# Altium schematic symbol library ST1S40IPUR.SchLib: 1 symbol
Pins are listed as number, name and electrical type; pins without a type are passive.

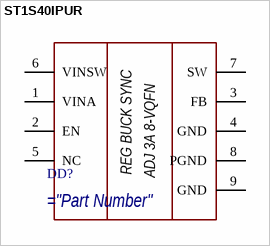
[diagram p0: symbol ST1S40IPUR]

## ST1S40IPUR
designator DD?
Buck Switching Regulator IC Positive Adjustable 0.8V 1 Output 3A 8-VDFN Exposed Pad; MF: STMicroelectronics; MP: ST1S40IPUR; SnapEDA_Link: https://www.snapeda.com/parts/ST1S40IPUR/STMicroelectronics/view-part/?ref=snap; Package: VDFN-8 STMicroelectronics; Value: *; Check_prices: https://www.snapeda.com/parts/ST1S40IPUR/STMicroelectronics/view-part/?ref=eda
pins: 1 VINA, 2 EN, 3 FB, 4 GND, 5 NC, 6 VINSW, 7 SW, 8 PGND, 8 PGND, 9 GND
text: REG BUCK SYNC; ADJ 3A 8-VQFN